# EAGLE library part NH-14 (library Oles komponentbibliotek)
NH-14 Nixie tube
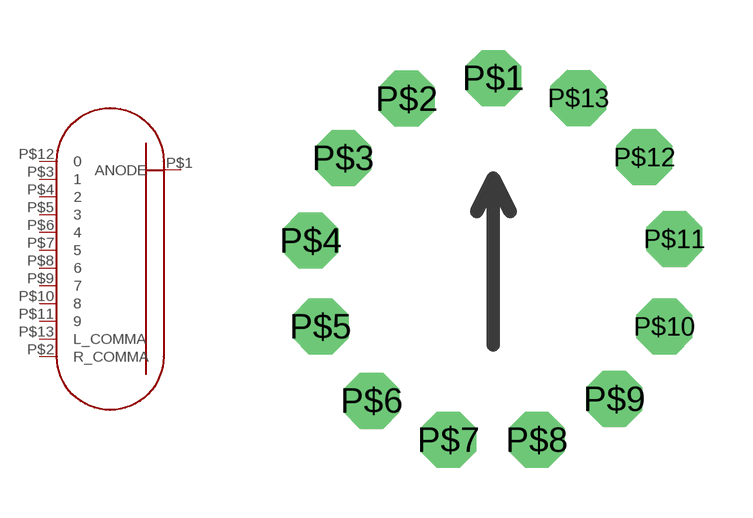
[diagram p56: symbol with the pads of NH-14; footprint NH-14]

Designator prefix -

## NH-14  [NH-14]
P$1  ANODE  in
P$2  R_COMMA  in
P$3  1  in
P$4  2  in
P$5  3  in
P$6  4  in
P$7  5  in
P$8  6  in
P$9  7  in
P$10  8  in
P$11  9  in
P$12  0  in
P$13  L_COMMA  in

## Footprint NH-14 (pad centres in mm)
NH-14 Nixie tube
drill 0.8 pad 1.676 octagon: P$1 0,5.5; P$2 -2.6,4.875; P$3 -4.5,3.1; P$4 -5.475,0.625; P$5 -5.175,-1.95; P$6 -3.65,-4.175; P$7 -1.35,-5.35; P$8 1.3,-5.35; P$9 3.625,-4.125; P$10 5.125,-1.95; P$11 5.425,0.675; P$12 4.525,3.125; P$13 2.55,4.9